# Altium footprint library CI de interfaz USB.PcbLib: 2 footprints
Each footprint in its own frame and in the unit in brackets; x right, y up, seen from the top. Pads: shape width x height; smd on the part's side, far side on the other; paste and mask are expansions set on the pad; w line width, h text height; cw(c..) or ccw(c..) is an arc to the next point about the centre after c.
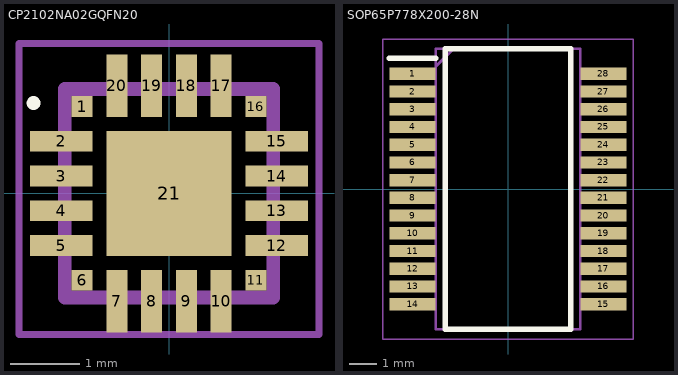
[diagram p0: the footprints below, top view; thin cyan lines are the x and y axes]

## CP2102NA02GQFN20 [mm]
pads (21):
  rect 0.3x0.3 smd: 1(-1.25,1.25) 6(-1.25,-1.25) 11(1.25,-1.25) 16(1.25,1.25)
  rect 0.9x0.3 smd: 2(-1.55,0.75) 3(-1.55,0.25) 4(-1.55,-0.25) 5(-1.55,-0.75) 12(1.55,-0.75) 13(1.55,-0.25) 14(1.55,0.25) 15(1.55,0.75)
  rect 0.3x0.9 smd: 7(-0.75,-1.55) 8(-0.25,-1.55) 9(0.25,-1.55) 10(0.75,-1.55) 17(0.75,1.55) 18(0.25,1.55) 19(-0.25,1.55) 20(-0.75,1.55)
  rect 1.8x1.8 smd: 21(0,0)
Top Overlay:
  lines w0.1: -2,1.3 ccw(c-1.95,1.3) -1.9,1.3 ccw(c-1.95,1.3) -2,1.3
Mechanical 13:
  lines w0.2: -1.5,-1.5 -1.5,1.5 1.5,1.5 1.5,-1.5 -1.5,-1.5
Mechanical 15:
  lines w0.1: -2.159,-2.032 -2.159,2.159 2.159,2.159 2.159,-2.032 -2.159,-2.032
3D body "QFN-20 option 2.STEP": height 0.62, standoff -0.08, extent -1.5,-1.5 1.5,1.5

## SOP65P778X200-28N [mm]
pads (28):
  rect 1.7x0.45 smd: 1(-3.5,4.225) 2(-3.5,3.575) 3(-3.5,2.925) 4(-3.5,2.275) 5(-3.5,1.625) 6(-3.5,0.975) 7(-3.5,0.325) 8(-3.5,-0.325) 9(-3.5,-0.975) 10(-3.5,-1.625) 11(-3.5,-2.275) 12(-3.5,-2.925) 13(-3.5,-3.575) 14(-3.5,-4.225) 15(3.5,-4.225) 16(3.5,-3.575) 17(3.5,-2.925) 18(3.5,-2.275) 19(3.5,-1.625) 20(3.5,-0.975) 21(3.5,-0.325) 22(3.5,0.325) 23(3.5,0.975) 24(3.5,1.625) 25(3.5,2.275) 26(3.5,2.925) 27(3.5,3.575) 28(3.5,4.225)
Top Overlay:
  lines w0.2: -4.35,4.8 -2.65,4.8 ; -2.3,-5.138 -2.3,5.138 2.3,5.138 2.3,-5.138 -2.3,-5.138
Mechanical 13:
  lines w0.1: -2.65,4.488 -2,5.138 ; -2.65,-5.138 -2.65,5.138 2.65,5.138 2.65,-5.138 -2.65,-5.138
Mechanical 15:
  lines w0.05: -4.6,-5.5 -4.6,5.5 4.6,5.5 4.6,-5.5 -4.6,-5.5
3D body "SSOP-28.STEP": height 2.15, standoff 0, extent -3.878,-5.165 3.878,5.165